# EAGLE library part 690367291476 (library Board-to-Board (rev18a))
WR-MM Female SMT Connector with Latch and with Polarization, 14 Pins=>Code : Con_BTB_MM_Female_SMT_690367291476 <http://katalog.we-online.de/media/images/v2/WR-MiMo_69036729xx76.jpg> Details see: http://katalog.we-online.de/en/em/6903_6729_xx_76 Created 2014-06-04, Karrer Zheng 2014 (C) Würth Elektronik
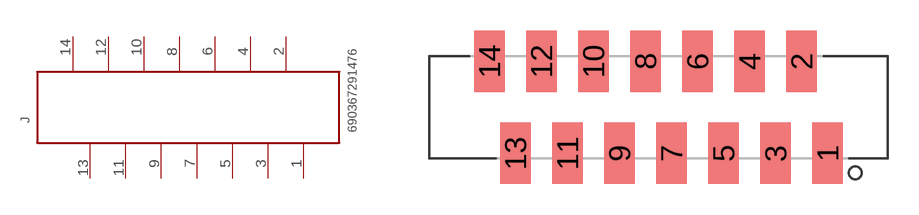
[diagram p364: symbol with the pads of 690367291476; footprint 690367291476]

Designator prefix J

## 690367291476  [690367291476]
1  1  pas
2  2  pas
3  3  pas
4  4  pas
5  5  pas
6  6  pas
7  7  pas
8  8  pas
9  9  pas
10  10  pas
11  11  pas
12  12  pas
13  13  pas
14  14  pas

## Footprint 690367291476 (pad centres in mm)
WR-MM Female SMT Connector with Latch and with Polarization, 14 pins
smd 1.5 x 3: 1 8.255,-2.25; 2 6.985,2.25; 3 5.715,-2.25; 4 4.445,2.25; 5 3.175,-2.25; 6 1.905,2.25; 7 0.635,-2.25; 8 -0.635,2.25; 9 -1.905,-2.25; 10 -3.175,2.25; 11 -4.445,-2.25; 12 -5.715,2.25; 13 -6.985,-2.25; 14 -8.255,2.25